# Altium footprint library N mosfet.PcbLib: 1 footprints
Each footprint in its own frame and in the unit in brackets; x right, y up, seen from the top. Pads: shape width x height; smd on the part's side, far side on the other; paste and mask are expansions set on the pad; w line width, h text height; cw(c..) or ccw(c..) is an arc to the next point about the centre after c.
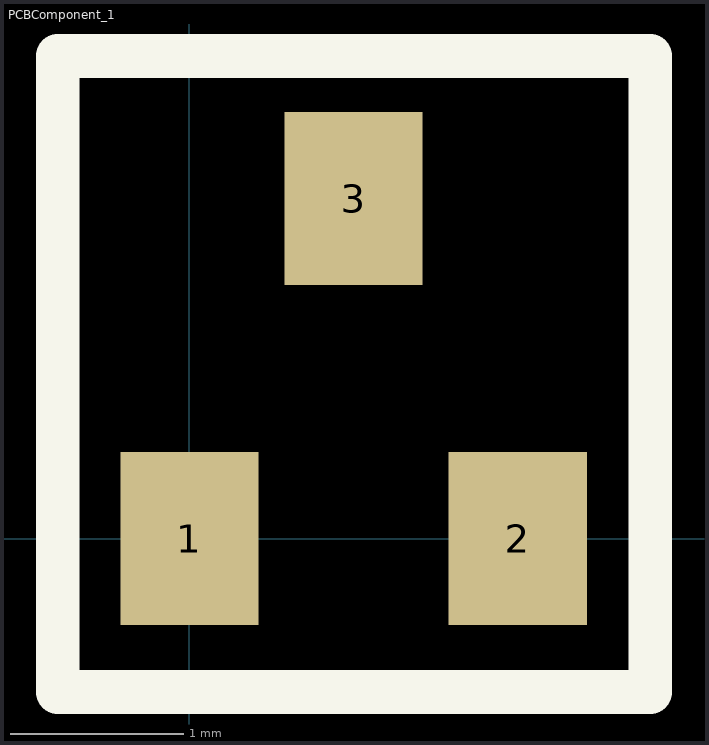
[diagram p0: the footprint, top view; thin cyan lines are the x and y axes]

## PCBComponent_1 [mm]
pads (3):
  rect 0.8x1 smd: 1(0,0) 2(1.9,0) 3(0.95,1.968)
Top Overlay:
  lines w0.254: -0.762,-0.889 2.667,-0.889 2.667,2.794 -0.762,2.794 -0.762,-0.889